# Altium footprint library SAMTEC_MTSW-112-09-T-S-124-RE.PcbLib: 1 footprints
Each footprint in its own frame and in the unit in brackets; x right, y up, seen from the top. Pads: shape width x height; smd on the part's side, far side on the other; paste and mask are expansions set on the pad; w line width, h text height; cw(c..) or ccw(c..) is an arc to the next point about the centre after c.
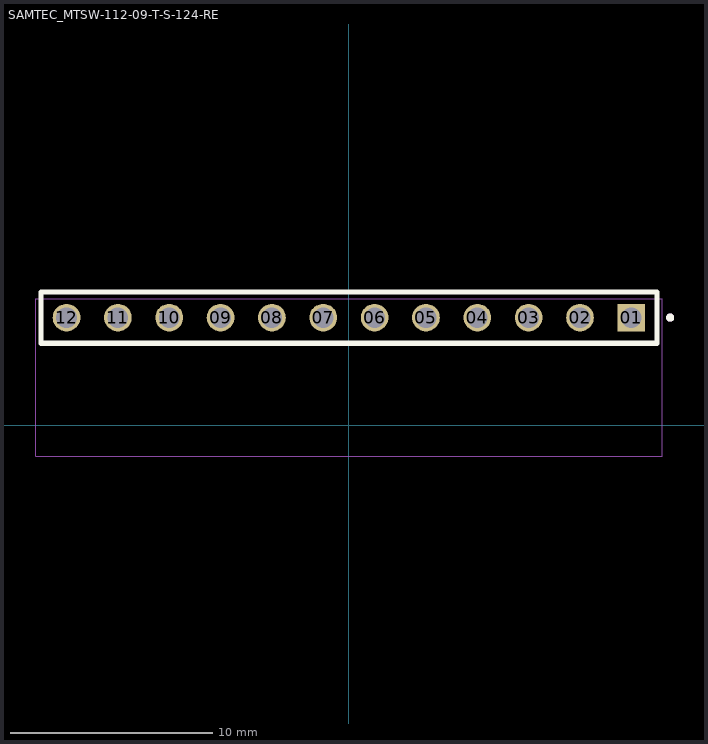
[diagram p0: the footprint, top view; thin cyan lines are the x and y axes]

## SAMTEC_MTSW-112-09-T-S-124-RE [mm]
pads (12):
  rect 1.37x1.37 / inner round 1.37 / far side rect 1.37x1.37 hole 1.02 mask+0.102: 01(13.97,5.33)
  round 1.37 hole 1.02 mask+0.102: 02(11.43,5.33) 03(8.89,5.33) 04(6.35,5.33) 05(3.81,5.33) 06(1.27,5.33) 07(-1.27,5.33) 08(-3.81,5.33) 09(-6.35,5.33) 10(-8.89,5.33) 11(-11.43,5.33) 12(-13.97,5.33)
Top Overlay:
  circle w0.2: c15.89,5.33 r0.1
  lines w0.254: -15.24,4.064 15.24,4.064 15.24,6.604 -15.24,6.604 -15.24,4.064
Assembly Top:
  circle w0.2: c15.89,5.33 r0.1
Courtyard Top:
  lines w0.05: -15.49,-1.52 15.49,-1.52 15.49,6.265 -15.49,6.265 -15.49,-1.52
3D body "MTSW-112-09-T-S-124-RE.stp": height 6.98, standoff -3.09, extent -15.24,-4.479 15.24,6.57